# Altium schematic symbol library 74441-0001.SchLib: 1 symbol
Pins are listed as number, name and electrical type; pins without a type are passive.

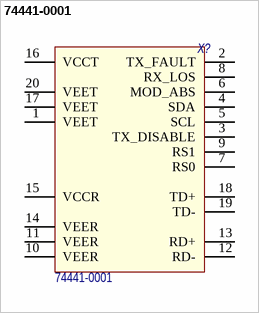
[diagram p0: symbol 74441-0001]

## 74441-0001
designator X?
Host SFP/SFP+ connector; Назначение: Host  SFP+ connector; Потребление, Вт: 0; Наименование: 74441-0001
footprint 74441-0001 (Host SFP/SFP+ connector)
pins: 1 VEET, 2 TX_FAULT, 3 TX_DISABLE, 4 SDA, 5 SCL, 6 MOD_ABS, 7 RS0, 8 RX_LOS, 9 RS1, 10 VEER, 11 VEER, 12 RD-, 13 RD+, 14 VEER, 15 VCCR, 16 VCCT, 17 VEET, 18 TD+, 19 TD-, 20 VEET